# Altium schematic symbol library MP1584.SchLib: 1 symbol
Pins are listed as number, name and electrical type; pins without a type are passive.

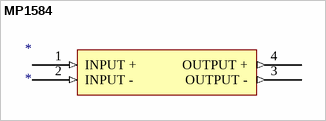
[diagram p0: symbol MP1584]

## MP1584
designator *
footprint PCBComponent_1
pins: 1 INPUT + (in), 2 INPUT - (in), 3 OUTPUT - (out), 4 OUTPUT + (out)